# EAGLE library part MTJ-88ARX1-FSM-LG (library MTJ-88ARX1-FSM-LG)
RJ45 Modular Jack, Shielded, Dip, Side Entry,LEDs Source: Datasheet <https://www.arrow.com/en/products/mtj-88arx1-fsm-lg/adam-tech>
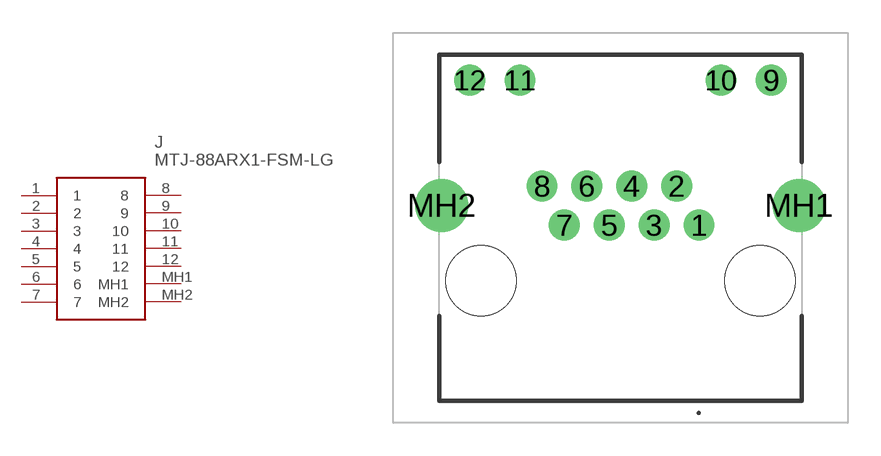
[diagram p0: symbol with the pads of MTJ88ARX1FSMLG; footprint MTJ88ARX1FSMLG]

Designator prefix J

## MTJ-88ARX1-FSM-LG (Description: RJ45 Modular Jack, Shielded, Dip, Side Entry,LEDs; Height: 13.708mm; Manufacturer_Name: Adam Tech; Manufacturer_Part_Number: MTJ-88ARX1-FSM-LG; Mouser_Part_Number: 737-MTJ88ARX1FSMLG; Mouser_Price-Stock: https://www.mouser.co.uk/ProductDetail/Adam-Tech/MTJ-88ARX1-FSM-LG?qs=HoCaDK9Nz5cwcndn7zcdzQ%3D%3D)  [MTJ88ARX1FSMLG]
1  1
2  2
3  3
4  4
5  5
6  6
7  7
8  8
9  9
10  10
11  11
12  12
MH1  MH1
MH2  MH2

## Footprint MTJ88ARX1FSMLG (pad centres in mm)
MTJ-88ARX1-FSM-LG-2
drill 0.9 pad 1.4: 1 0,0; 2 -1.02,1.78; 3 -2.04,0; 4 -3.06,1.78; 5 -4.08,0; 6 -5.1,1.78; 7 -6.12,0; 8 -7.14,1.78; 9 3.29,6.6; 10 1,6.6; 11 -8.14,6.6; 12 -10.43,6.6
drill 1.6 pad 2.4: MH1 4.555,0.89; MH2 -11.695,0.89
hole 3.2 at 2.78,-2.54
hole 3.2 at -9.92,-2.54